# Altium footprint library Misc Connector Header.PcbLib: 26 footprints (part 2 of 2)
Each footprint in its own frame and in the unit in brackets; x right, y up, seen from the top. Pads: shape width x height; smd on the part's side, far side on the other; paste and mask are expansions set on the pad; w line width, h text height; cw(c..) or ccw(c..) is an arc to the next point about the centre after c.
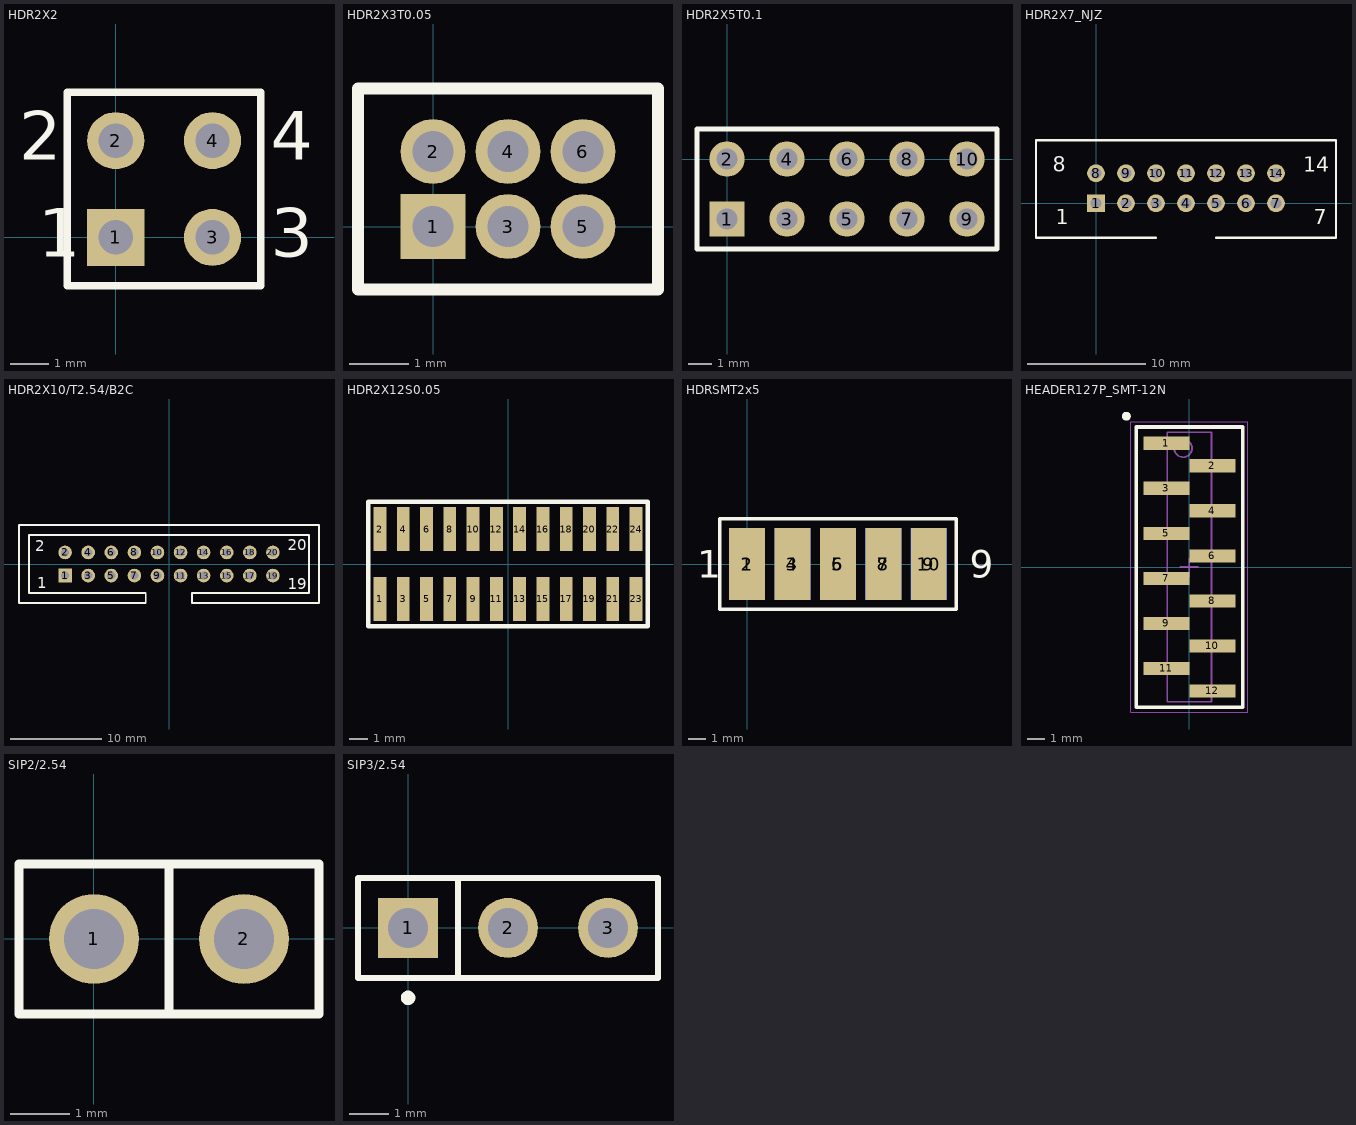
[diagram p1: the footprints below, top view; thin cyan lines are the x and y axes]

## HDR2X2 [mm] "Connector; Header; 2x2 Position"
pads (4):
  rect 1.5x1.5 hole 0.9: 1(0,0)
  round 1.5 hole 0.9: 2(0,2.54) 3(2.54,0) 4(2.54,2.54)
Top Overlay:
  lines w0.2: -1.27,-1.27 3.81,-1.27 3.81,3.81 -1.27,3.81 -1.27,-1.27
  text "3" at 4.064,-0.508 h1.27
  text "4" at 4.064,2.032 h1.27
  text "2" at -2.54,2.032 h1.27
  text "1" at -2.032,-0.508 h1.27

## HDR2X3T0.05 [mm] "Connector; Header; 2x3 Position"
pads (6):
  rect 1.1x1.1 hole 0.7: 1(0,0)
  round 1.1 hole 0.7: 2(0,1.27) 3(1.27,0) 4(1.27,1.27) 5(2.54,0) 6(2.54,1.27)
Top Overlay:
  lines w0.2: -1.27,-1.065 3.81,-1.065 3.81,2.335 -1.27,2.335 -1.27,-1.065

## HDR2X5T0.1 [mm] "Connector; Header; 2x5 Position; 2.54mm Pitch"
pads (10):
  rect 1.5x1.5 hole 0.9: 1(0,-2.54)
  round 1.5 hole 0.9: 2(0,0) 3(2.54,-2.54) 4(2.54,0) 5(5.08,-2.54) 6(5.08,0) 7(7.62,-2.54) 8(7.62,0) 9(10.16,-2.54) 10(10.16,0)
Top Overlay:
  lines w0.2: -1.27,-3.81 -1.27,-1.27 -1.27,1.27 11.43,1.27 11.43,-1.27 11.43,-3.81 -1.27,-3.81

## HDR2X7_NJZ [mm] "Connector; Header; 7x2 Position"
pads (14):
  rect 1.5x1.5 hole 0.9: 1(0,0)
  round 1.5 hole 0.9: 2(2.54,0) 3(5.08,0) 4(7.62,0) 5(10.16,0) 6(12.7,0) 7(15.24,0) 8(0,2.54) 9(2.54,2.54) 10(5.08,2.54) 11(7.62,2.54) 12(10.16,2.54) 13(12.7,2.54) 14(15.24,2.54)
Top Overlay:
  lines w0.2: 5.08,-2.921 -5.08,-2.921 -5.08,5.334 20.32,5.334 20.32,-2.921 10.16,-2.921
  text "14" at 17.526,2.667 h1.27
  text "7" at 18.415,-1.778 h1.27
  text "1" at -3.429,-1.778 h1.27
  text "8" at -3.683,2.667 h1.27

## HDR2X10/T2.54/B2C [mm] "Connector; Header; 10x2 Position; Pitch 2.54mm; Style Board to Cable;"
pads (20):
  rect 1.5x1.5 hole 0.9: 1(-11.43,-1.27)
  round 1.5 hole 0.9: 2(-11.43,1.27) 3(-8.89,-1.27) 4(-8.89,1.27) 5(-6.35,-1.27) 6(-6.35,1.27) 7(-3.81,-1.27) 8(-3.81,1.27) 9(-1.27,-1.27) 10(-1.27,1.27) 11(1.27,-1.27) 12(1.27,1.27) 13(3.81,-1.27) 14(3.81,1.27) 15(6.35,-1.27) 16(6.35,1.27) 17(8.89,-1.27) 18(8.89,1.27) 19(11.43,-1.27) 20(11.43,1.27)
Top Overlay:
  lines w0.2: -16.5,-4.3 -16.5,4.3 16.5,4.3 16.5,-4.3 2.54,-4.3 2.54,-3.2 15.4,-3.2 15.4,3.2 -15.4,3.2 -15.4,-3.2 -2.565,-3.2 -2.565,-4.275 -2.59,-4.3 -16.5,-4.3
  text "20" at 13.081,1.524 h1.2
  text "19" at 13.081,-2.794 h1.2
  text "1" at -14.478,-2.667 h1.2
  text "2" at -14.732,1.397 h1.2

## HDR2X12S0.05 [mm] "Header 2*12 PIN, 1.27mm, SMT"
pads (24):
  rect 0.7x2.4 smd: 1(-6.985,-1.9) 2(-6.985,1.9) 3(-5.715,-1.9) 4(-5.715,1.9) 5(-4.445,-1.9) 6(-4.445,1.9) 7(-3.175,-1.9) 8(-3.175,1.9) 9(-1.905,-1.9) 10(-1.905,1.9) 11(-0.635,-1.9) 12(-0.635,1.9) 13(0.635,-1.9) 14(0.635,1.9) 15(1.905,-1.9) 16(1.905,1.9) 17(3.175,-1.9) 18(3.175,1.9) 19(4.445,-1.9) 20(4.445,1.9) 21(5.715,-1.9) 22(5.715,1.9) 23(6.985,-1.9) 24(6.985,1.9)
Top Overlay:
  lines w0.254: -7.635,-3.4 -7.635,3.4 7.635,3.4 7.635,-3.4 -7.635,-3.4

## HDRSMT2x5 [mm] "Connector; Header; 2*5 Position; SMT"
pads (10):
  rect 2x4 smd: 1(0,0) 3(2.54,0) 5(5.08,0) 7(7.62,0) 9(10.16,0)
  rect 2x4 smd far side: 2(0,0) 4(2.54,0) 6(5.08,0) 8(7.62,0) 10(10.16,0)
Top Overlay:
  lines w0.2: -1.524,-2.54 11.684,-2.54 11.684,2.54 -1.524,2.54 -1.524,-2.54
  text "1" at -2.794,-0.762 h1.52
  text "9" at 12.446,-0.762 h1.52
Bottom Overlay:
  lines w0.2: -1.524,-2.54 -1.524,2.54 11.684,2.54 11.684,-2.54 -1.524,-2.54
  text "2" at -3.048,-0.762 h1.52
  text "10" at 12.7,-0.762 h1.52

## HEADER127P_SMT-12N [mm] "HEADER, SMT, 12-Leads, Body 15.24x2.50mm, Pitch 1.27mm, IPC Medium Density"
height 6
pads (12):
  rect 2.6x0.74 smd: 1(-1.3,6.985) 2(1.3,5.715) 3(-1.3,4.445) 4(1.3,3.175) 5(-1.3,1.905) 6(1.3,0.635) 7(-1.3,-0.635) 8(1.3,-1.905) 9(-1.3,-3.175) 10(1.3,-4.445) 11(-1.3,-5.715) 12(1.3,-6.985)
Top Overlay:
  circle w0.25: c-3.554,8.509 r0.125
  lines w0.2: -3,-7.9 -3,7.9 3,7.9 3,-7.9 -3,-7.9
Mechanical 13:
  circle w0.1: c-0.35,6.7 r0.5
  lines w0.1: -1.25,-7.6 -1.25,7.6 1.25,7.6 1.25,-7.6 -1.25,-7.6
Mechanical 15:
  lines w0.05: -3.3,-8.2 3.3,-8.2 3.3,8.2 -3.3,8.2 -3.3,-8.2
  lines w0.1: -0.5,0 0.5,0 ; 0,-0.5 0,0.5
3D body: height 6, standoff 0.3, extent -1.25,-7.6 1.25,7.6

## SIP2/2.54 [mil]
height 78.74
pads (2):
  round 60 hole 40: 1(0,0) 2(100,0)
Top Overlay:
  lines w6: 50.04,-50.04 50.04,49.96 ; -49.96,-50.04 -49.96,49.96 150.04,49.96 150.04,-50.04 -49.96,-50.04

## SIP3/2.54 [mil]
height 275.98
pads (3):
  rect 60x60 hole 40: 1(0,0)
  round 60 hole 40: 2(100,0) 3(200,0)
Top Overlay:
  circle w9.84: c0.08,-70 r2.31
  lines w6: 50,-50 50,50 ; -50,-50 250,-50 250,50 -50,50 -50,-50